# EAGLE library part LAN8720 (library lan8720)
LAN8720A/LAN8720Ai Small Footprint RMII 10/100 Ethernet PHY Transceiver with HP Auto-MDIX Support from SMSC / Microchip <http://www.microchip.com>. (C) 2014 Tomasz Boleslaw CEDRO, cederom@tlen.pl, http://www.tomek.cedro.info. Version 0.1 (2014-01-04): Initial release.
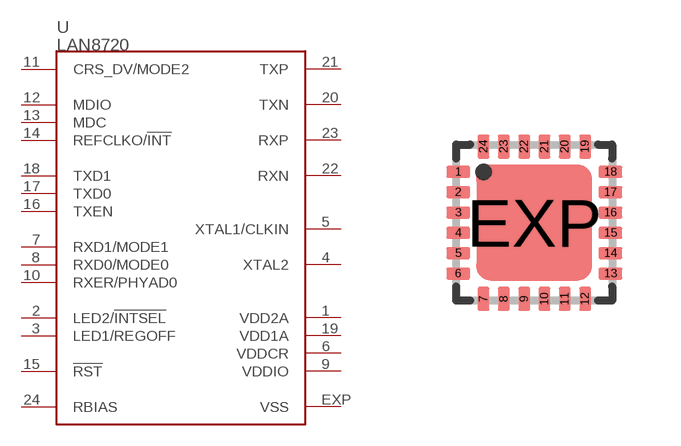
[diagram p0: symbol with the pads of QFN24; footprint QFN24]

Designator prefix -

## LAN8720  [QFN24]
1  VDD2A  pwr
2  LED2/!INTSEL
3  LED1/REGOFF
4  XTAL2
5  XTAL1/CLKIN
6  VDDCR  pwr
7  RXD1/MODE1
8  RXD0/MODE0
9  VDDIO  pwr
10  RXER/PHYAD0
11  CRS_DV/MODE2
12  MDIO
13  MDC
14  REFCLKO/!INT
15  !RST
16  TXEN
17  TXD0
18  TXD1
19  VDD1A  pwr
20  TXN
21  TXP
22  RXN
23  RXP
24  RBIAS
EXP  VSS  pwr

## Footprint QFN24 (pad centres in mm)
QFN 4x4 mm Source: http://www.hittite.com/product_info/product_specs/dividersdetectors/hmc394lp4.pdf
smd 0.6 x 0.3: 1 -1.905,1.27; 2 -1.905,0.762; 3 -1.905,0.254; 4 -1.905,-0.254; 5 -1.905,-0.762; 6 -1.905,-1.27; 13 1.905,-1.27; 14 1.905,-0.762; 15 1.905,-0.254; 16 1.905,0.254; 17 1.905,0.762; 18 1.905,1.27
smd 0.3 x 0.6: 7 -1.27,-1.905; 8 -0.762,-1.905; 9 -0.254,-1.905; 10 0.254,-1.905; 11 0.762,-1.905; 12 1.27,-1.905; 19 1.27,1.905; 20 0.762,1.905; 21 0.254,1.905; 22 -0.254,1.905; 23 -0.762,1.905; 24 -1.27,1.905
smd 2.9 x 2.9: EXP 0,0